# Altium integrated library MergenElektronik_Diodes_TVSDiodes.IntLib: 1 symbol
Pins are listed as number, name and electrical type; pins without a type are passive.

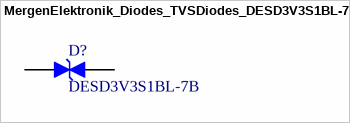
[diagram p0: symbol MergenElektronik_Diodes_TVSDiodes_DESD3V3S1BL-7B]

## MergenElektronik_Diodes_TVSDiodes_DESD3V3S1BL-7B
designator D?, comment DESD3V3S1BL-7B
Mergen Elektronik - Diodes - TVS Diodes - DESD3V3S1BL-7B; Manufacturer: Diodes Incorporated; Breakdown Voltage: 3.8V; Current - Peak Pulse: 5A(8/20µs); Voltage Reverse Standoff: 3.3V(Max); Capacitance @ Frequency: 10pF @ 1MHz; Voltae Clamping: 7V; Digi-Key Number: DESD3V3S1BL-7BDITR-ND; Manufacturer Number: DESD3V3S1BL-7B; Model: TVS Diodes; Mounting Type: Surface Mount; Package: 0402 (1006 Metric); Temperature: -65°C up to +150°C; Value: DESD3V3S1BL-7B; Mouser Number: 621-DESD3V3S1BL-7B; Farnell Number: 3127287; Supplier 1: Digikey; Supplier 2: Mouser; Supplier Part Number 2: DESD3V3S1BL-7BDITR-ND; Supplier Part Number 1: 621-DESD3V3S1BL-7B
footprint MergenElektronik_Diodes_TVSDiodes_0402_L (0402 Large)
footprint MergenElektronik_Diodes_TVSDiodes_0402_L_NS (0402 Large - No Silkscreen)
footprint MergenElektronik_Diodes_TVSDiodes_0402_M (0402 Medium)
footprint MergenElektronik_Diodes_TVSDiodes_0402_M_NS (0402 Medium - No Silkscreen)
footprint MergenElektronik_Diodes_TVSDiodes_0402_S (0402 Small)
footprint MergenElektronik_Diodes_TVSDiodes_0402_S_NS (0402 Small - No Silkscreen)
pins: 1 ANOT, 2 KATOT